# EAGLE library part INA226AIDGSR (library U-TI-INA226AIDGSR-CurrentMonitor)
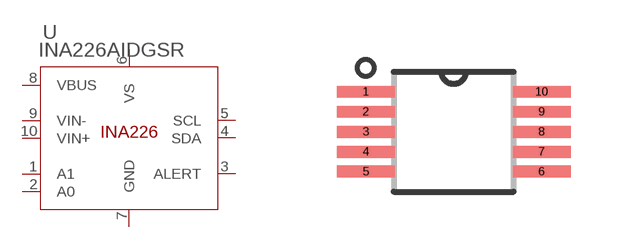
[diagram p0: symbol with the pads of DGS10; footprint DGS10]

Designator prefix U

## INA226AIDGSR (MANUFACTURER_PART_NUMBER: INA226AIDGSR; VENDOR: Texas Instruments)  [DGS10]
1  A1  pas
2  A0  pas
3  ALERT  out
4  SDA
5  SCL  in
6  VS  pwr
7  GND  pwr
8  VBUS  in
9  VIN-  in
10  VIN+  in

## Footprint DGS10 (pad centres in mm)
smd 1.45 x 0.3: 1 -2.2,1; 2 -2.2,0.5; 3 -2.2,0; 4 -2.2,-0.5; 5 -2.2,-1; 6 2.2,-1; 7 2.2,-0.5; 8 2.2,0; 9 2.2,0.5; 10 2.2,1